# EAGLE library part ICN2037 (library ICN2037)
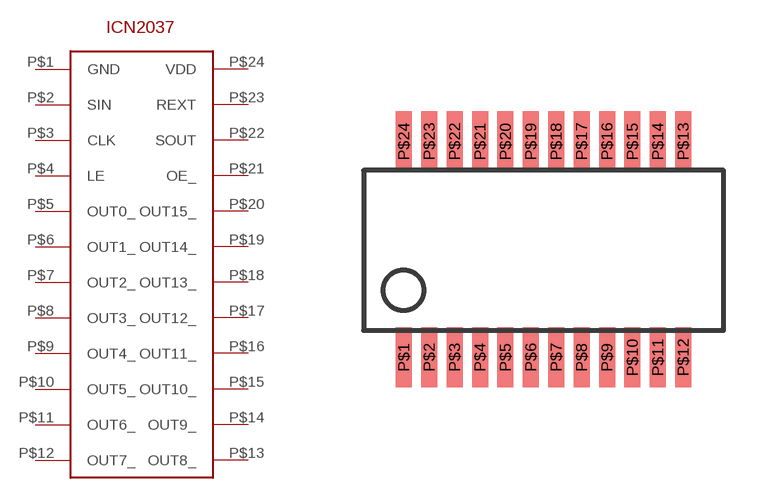
[diagram p0: symbol with the pads of SSOP24-P-150-0.635; footprint SSOP24-P-150-0.635]

Designator prefix U

## ICN2037  [SSOP24-P-150-0.635]
P$1  GND
P$2  SIN
P$3  CLK
P$4  LE
P$5  OUT0_
P$6  OUT1_
P$7  OUT2_
P$8  OUT3_
P$9  OUT4_
P$10  OUT5_
P$11  OUT6_
P$12  OUT7_
P$13  OUT8_
P$14  OUT9_
P$15  OUT10_
P$16  OUT11_
P$17  OUT12_
P$18  OUT13_
P$19  OUT14_
P$20  OUT15_
P$21  OE_
P$22  SOUT
P$23  REXT
P$24  VDD

## Footprint SSOP24-P-150-0.635 (pad centres in mm)
smd 0.4 x 1.5: P$1 -3.491,-2.674; P$2 -2.856,-2.674; P$3 -2.221,-2.674; P$4 -1.586,-2.674; P$5 -0.951,-2.674; P$6 -0.316,-2.674; P$7 0.319,-2.674; P$8 0.954,-2.674; P$9 1.589,-2.674; P$10 2.224,-2.674; P$11 2.859,-2.674; P$12 3.494,-2.674; P$13 3.494,2.724; P$14 2.859,2.724; P$15 2.224,2.724; P$16 1.589,2.724; P$17 0.954,2.724; P$18 0.319,2.724; P$19 -0.316,2.724; P$20 -0.951,2.724; P$21 -1.586,2.724; P$22 -2.221,2.724; P$23 -2.856,2.724; P$24 -3.491,2.724